# EAGLE library part CXK58256P (library Signetics)
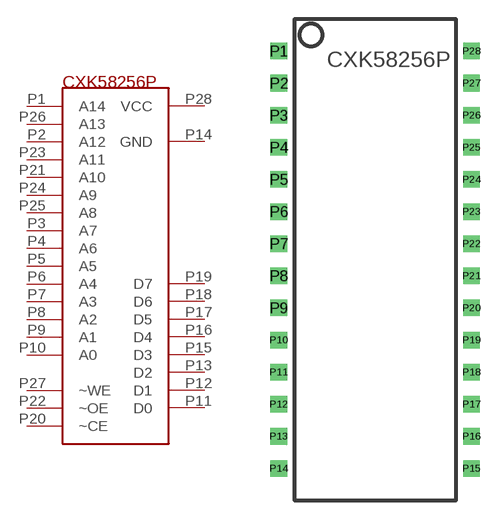
[diagram p1: symbol with the pads of CXK58256P; footprint CXK58256P]

Designator prefix -

## CXK58256P  [CXK58256P]
P1  A14
P2  A12
P3  A7
P4  A6
P5  A5
P6  A4
P7  A3
P8  A2
P9  A1
P10  A0
P11  D0
P12  D1
P13  D2
P14  GND
P15  D3
P16  D4
P17  D5
P18  D6
P19  D7
P20  ~CE
P21  A10
P22  ~OE
P23  A11
P24  A9
P25  A8
P26  A13
P27  ~WE
P28  VCC

## Footprint CXK58256P (pad centres in mm)
drill 0.8 square: P1 -8.89,16.51; P2 -8.89,13.97; P3 -8.89,11.43; P4 -8.89,8.89; P5 -8.89,6.35; P6 -8.89,3.81; P7 -8.89,1.27; P8 -8.89,-1.27; P9 -8.89,-3.81; P10 -8.89,-6.35; P11 -8.89,-8.89; P12 -8.89,-11.43; P13 -8.89,-13.97; P14 -8.89,-16.51; P15 6.35,-16.51; P16 6.35,-13.97; P17 6.35,-11.43; P18 6.35,-8.89; P19 6.35,-6.35; P20 6.35,-3.81; P21 6.35,-1.27; P22 6.35,1.27; P23 6.35,3.81; P24 6.35,6.35; P25 6.35,8.89; P26 6.35,11.43; P27 6.35,13.97; P28 6.35,16.51